# Altium footprint library MaWei.PcbLib: 84 footprints (part 2 of 6)
Each footprint in its own frame and in the unit in brackets; x right, y up, seen from the top. Pads: shape width x height; smd on the part's side, far side on the other; paste and mask are expansions set on the pad; w line width, h text height; cw(c..) or ccw(c..) is an arc to the next point about the centre after c.
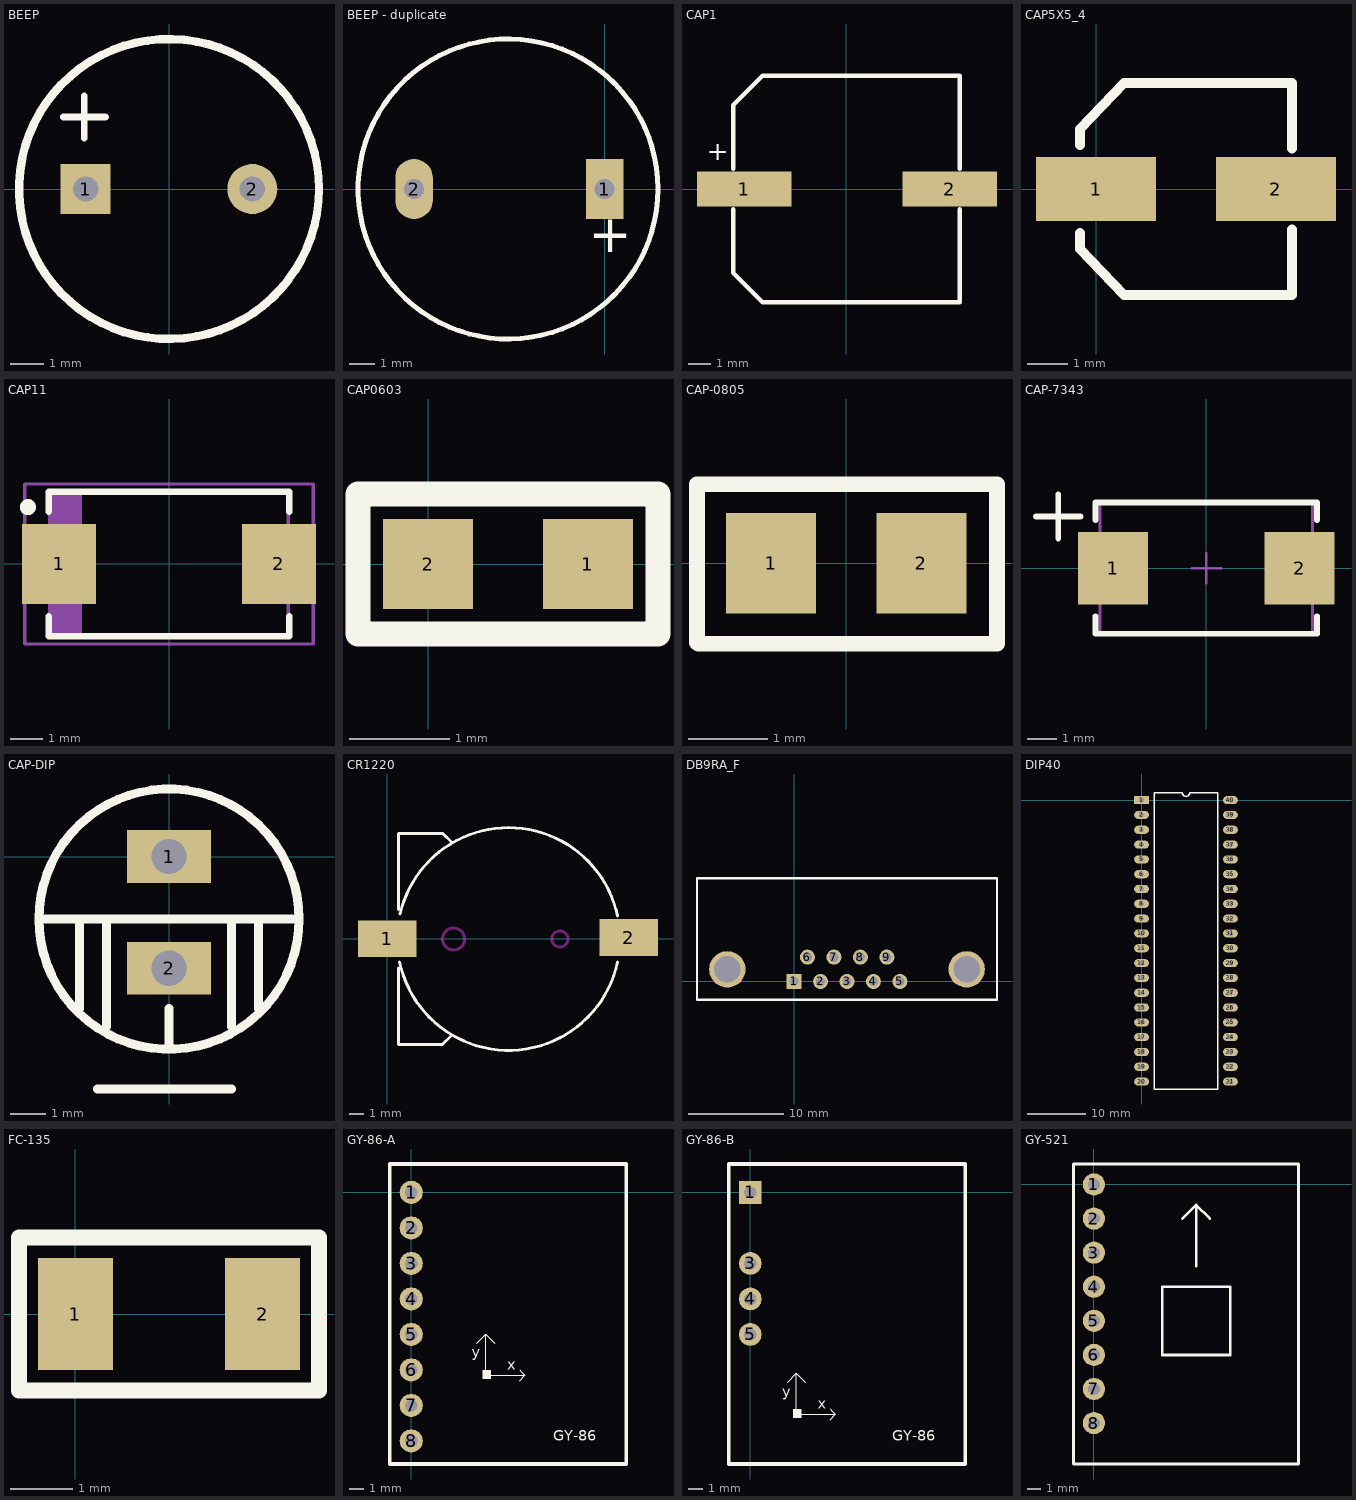
[diagram p1: the footprints below, top view; thin cyan lines are the x and y axes]

## BEEP [mm] "BEEP"
pads (2):
  rect 1.5x1.5 hole 0.762: 1(-2.5,0)
  round 1.5 hole 0.762: 2(2.5,0)
Top Overlay:
  circle w0.254: c0,0 r4.5
  lines w0.2: -3.175,2.159 -1.905,2.159 ; -2.54,1.524 -2.54,2.794

## BEEP - duplicate [mm]
height 9.5
pads (2):
  rect 1.5x2.4 hole 0.8: 1(0,0)
  oval 1.5x2.4 hole 0.8: 2(-7.62,0)
Top Overlay:
  circle w0.2: c-3.861,0 r6
  text "+" at -0.635,-2.54 h1.5

## CAP1 [mm] "Precision Wire Wound Inductor, 2-Leads, Body 10.3x10.3mm, IPC Medium Density"
height 10.68
pads (2):
  rect 4.3x1.6 smd: 1(-4.641,0) 2(4.699,0)
Top Overlay:
  lines w0.2: -5.15,-0.925 -5.15,-3.81 -3.81,-5.15 5.15,-5.15 5.15,-0.925 ; -5.15,0.925 -5.15,3.81 -3.81,5.15 5.15,5.15 5.15,0.925
  text "+" at -6.35,1.016 h1.5

## CAP5X5_4 [mm] "CAP5X5_4"
pads (2):
  rect 3x1.6 smd: 1(0,0) 2(4.5,0)
Top Overlay:
  lines w0.254: -0.4,-1.1 -0.4,-1.5 0.7,-2.65 4.9,-2.65 4.9,-1.016 ; -0.4,1.1 -0.4,1.5 0.7,2.65 4.9,2.65 4.9,1.016
3D body: height 5.41, standoff 0, extent -0.775,-2.675 5.125,2.625

## CAP11 [mm] "Molded Capacitor, 2-Leads, Body 7.4x4.4mm, IPC Medium Density"
height 2.78
pads (2):
  rect 2.3x2.5 smd: 1(-3.429,0) 2(3.429,0)
Top Overlay:
  circle w0.25: c-4.4,1.775 r0.125
  lines w0.2: -3.75,-1.625 -3.75,-2.25 3.75,-2.25 3.75,-1.625 ; -3.75,1.625 -3.75,2.25 3.75,2.25 3.75,1.625
Mechanical 13:
  rectangle: -3.72,-2.205 -2.719,2.205
  lines w0.1: -3.72,-2.205 -3.72,2.205 3.72,2.205 3.72,-2.205 -3.72,-2.205
Mechanical 15:
  lines w0.1: -4.5,-2.5 -4.5,2.5 4.5,2.5 4.5,-2.5 -4.5,-2.5
3D body: height 2.78, standoff 0, extent -3.72,-2.205 3.72,2.205

## CAP0603 [mm] "CAP0603"
pads (2):
  rect 0.9x0.9 smd: 1(1.6,0) 2(0,0)
Top Overlay:
  lines w0.254: -0.7,-0.7 2.3,-0.7 2.3,0.7 -0.7,0.7 -0.7,-0.7
3D body: height 0.6, standoff 0, extent -0.038,-0.4 1.562,0.4

## CAP-0805 [mm]
height 1.2
pads (2):
  rect 1.14x1.27 smd: 1(-0.95,0) 2(0.95,0)
Top Overlay:
  lines w0.2: -1.885,-1 -1.885,0 -1.885,1 1.905,1 1.905,-1.016 -1.869,-1.016

## CAP-7343 [mm] "Molded Capacitor, 2-Leads, Body 7.5x4.5mm, IPC Medium Density"
height 3.5
pads (2):
  rect 2.4x2.5 smd: 1(-3.2,0) 2(3.2,0)
Top Overlay:
  lines w0.2: -5.842,1.778 -4.318,1.778 ; -5.08,1.016 -5.08,2.54 ; -3.8,-1.65 -3.8,-2.25 3.8,-2.25 3.8,-1.65 ; -3.8,1.65 -3.8,2.25 3.8,2.25 3.8,1.65
Mechanical 15:
  lines w0.1: -0.5,0 0.5,0 ; 0,-0.5 0,0.5 ; -3.65,-2.25 3.65,-2.25 3.65,2.25 -3.65,2.25 -3.65,-2.25
3D body: height 3.5, standoff 0, extent -3.65,-2.25 3.65,2.25

## CAP-DIP [mm]
pads (2):
  rect 2.4x1.5 hole 1: 1(0,0) 2(0,-3.175)
Top Overlay:
  circle w0.254: c0,-1.778 r3.698
  lines w0.254: -3.556,-1.778 3.698,-1.778 ; -2.54,-4.318 -2.54,-1.778 ; -2.032,-6.604 1.778,-6.604 ; -1.778,-4.826 -1.778,-1.778 ; 0,-5.334 0,-4.318 ; 1.778,-4.826 1.778,-1.778 ; 2.54,-4.318 2.54,-1.778

## CR1220 [mm] "CR1220"
pads (2):
  rect 4x2.5 smd: 1(0,0) 2(16.475,0.075)
Top Overlay:
  lines w0.2: 0.775,-2.013 0.775,-7.212 3.775,-7.212 4.35,-6.637 ; 0.775,1.987 0.775,7.187 3.775,7.187 4.375,6.587 ; 0.841,-1.605 ccw(c8.275,-0.025) 15.709,-1.605 ; 0.87,1.685 cw(c8.275,-0.025) 8.275,7.575 cw(c8.275,-0.025) 15.709,1.555
Keep-Out Layer:
  circle w0.2: c11.775,-0.025 r0.55
  circle w0.2: c4.525,-0.025 r0.75
3D body: height 4.94, standoff 0, extent -1.036,-7.595 17.464,7.401

## DB9RA_F [mil] "DB9RA_F"
pads (11):
  rect 62x62 hole 38: 1(0,0)
  round 62 hole 38: 2(109,0) 3(218,0) 4(327,0) 5(436,0) 6(55,100) 7(164,100) 8(273,100) 9(382,100)
  round 150 hole 110: ""(-275,50) ""(711,50)
Top Overlay:
  lines w10: -400,-75 -400,425 836,425 836,-75 -400,-75
3D body: height 490.16, standoff -151.57, extent -382.99,-87.95 830,667.95

## DIP40 [mm]
height 7
pads (40):
  rect 2.54x1.4 hole 0.9: 1(0,0)
  oval 2.54x1.4 hole 0.8: 2(0,-2.54) 3(0,-5.08) 4(0,-7.62) 5(0,-10.16) 6(0,-12.7) 7(0,-15.24) 8(0,-17.78) 9(0,-20.32) 10(0,-22.86) 11(0,-25.4) 12(0,-27.94) 13(0,-30.48) 14(0,-33.02) 15(0,-35.56) 16(0,-38.1) 17(0,-40.64) 18(0,-43.18) 19(0,-45.72) 20(0,-48.26) 21(15.24,-48.26) 22(15.24,-45.72) 23(15.24,-43.18) 24(15.24,-40.64) 25(15.24,-38.1) 26(15.24,-35.56) 27(15.24,-33.02) 28(15.24,-30.48) 29(15.24,-27.94) 30(15.24,-25.4) 31(15.24,-22.86) 32(15.24,-20.32) 33(15.24,-17.78) 34(15.24,-15.24) 35(15.24,-12.7) 36(15.24,-10.16) 37(15.24,-7.62) 38(15.24,-5.08) 39(15.24,-2.54) 40(15.24,0)
Top Overlay:
  lines w0.254: 2.159,-49.53 2.159,1.27 6.985,1.27 ccw(c7.62,1.27) 8.255,1.27 13.081,1.27 13.081,-49.53 2.159,-49.53

## FC-135 [mm] "FC-135"
pads (2):
  rect 1.2x1.8 smd: 1(0,0) 2(3,0)
Top Overlay:
  lines w0.254: -0.9,-1.225 -0.9,1.225 3.9,1.225 3.9,-1.225 -0.9,-1.225
3D body: height 0.91, standoff 0, extent -0.085,-0.735 3.135,0.785

## GY-86-A [mil]
pads (8):
  round 65 hole 34: 1(0,0) 2(0,-100) 3(0,-200) 4(0,-300) 5(0,-400) 6(0,-500) 7(0,-600) 8(0,-700)
Top Overlay:
  rectangle: 200,-525 225,-500
  lines w3: 185,-425 210,-400 ; 235,-425 210,-400 ; 305,-530 320,-515 ; 305,-500 310,-505 320,-515 ; 210,-400 210,-515 320,-515
  lines w10: -60,-765 -60,80 605,80 605,-765 -60,-765
  text "GY-86" at 400,-700 h30
  text "x" at 270,-500 h30
  text "y" at 170,-465 h30

## GY-86-B [mil]
pads (4):
  rect 64x64 hole 34: 1(0,0)
  round 64 hole 34: 3(0,-200) 4(0,-300) 5(0,-400)
Top Overlay:
  rectangle: 120,-635 145,-610
  lines w3: 105,-535 130,-510 ; 155,-535 130,-510 ; 225,-640 240,-625 ; 225,-610 230,-615 240,-625 ; 130,-510 130,-625 240,-625
  lines w10: -60,-765 -60,80 605,80 605,-765 -60,-765
  text "GY-86" at 400,-700 h30
  text "y" at 90,-575 h30
  text "x" at 190,-610 h30

## GY-521 [mil]
pads (8):
  round 65 hole 34: 1(0,0) 2(0,-100) 3(0,-200) 4(0,-300) 5(0,-400) 6(0,-500) 7(0,-600) 8(0,-700)
Top Overlay:
  lines w7.87: 260,-100 300,-60 ; 300,-240 300,-60 ; 340,-100 300,-60 ; -60,-820 -60,60 600,60 600,-820 -60,-820 ; 200,-500 200,-300 400,-300 400,-500 200,-500